# Altium schematic symbol library CMS03_TE12L_Q_M_.SchLib: 1 symbol
Pins are listed as number, name and electrical type; pins without a type are passive.

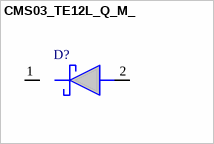
[diagram p0: symbol CMS03_TE12L_Q_M_]

## CMS03_TE12L_Q_M_
designator D?
Schottky Diodes & Rectifiers Diode Schottky 30V, 3A; Manufacturer_Name: Toshiba; Manufacturer_Part_Number: CMS03(TE12L,Q,M); Geometry.Height: 1.08mm; Mouser Part Number: 757-CMS03TE12LQM; Mouser Price/Stock: https://www.mouser.co.uk/ProductDetail/Toshiba/CMS03TE12LQM?qs=JiHARDETuZCAOQFJpNqJLg%3D%3D; Arrow Part Number: CMS03(TE12L,Q,M); Arrow Price/Stock: https://www.arrow.com/en/products/cms03-te12lqm/toshiba; Mouser Testing Part Number: *; Mouser Testing Price/Stock: *; Datasheet Link: http://toshiba.semicon-storage.com/info/docget.jsp?did=3131&prodName=CMS03
footprint SODFL4724X108N
pins: 1 K, 2 A